# EAGLE library part HEADER_POS20_? (library con-molex-c-grid-sl)
Molex -C-Grid® / SL Series connector Wire-to-Board 2.54 mm (0.100") pitch header, 20 positions.
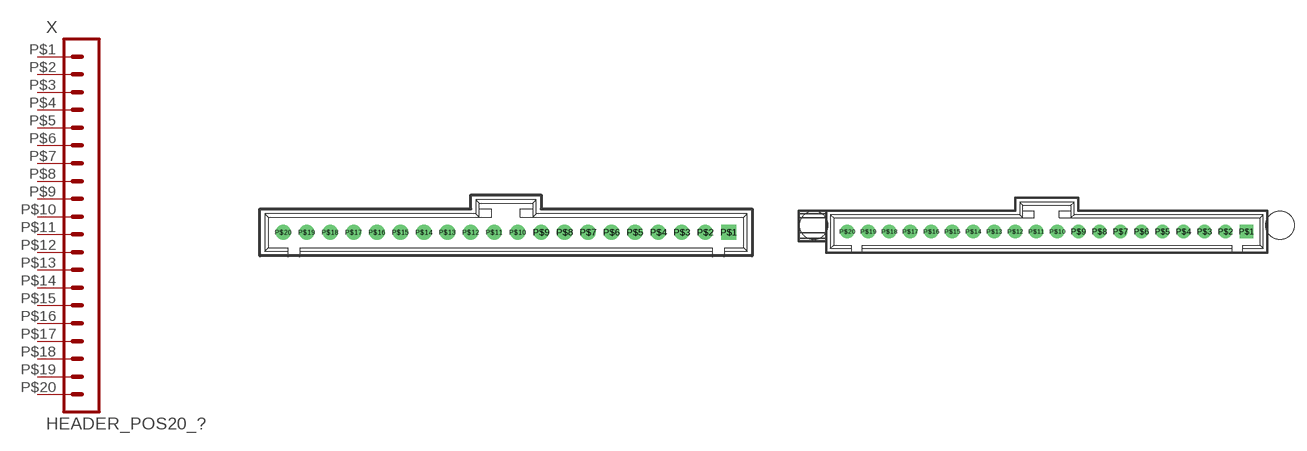
[diagram p14: symbol with the pads of 70543-POS20; footprints 70543-POS20, 70545-POS20]

Designator prefix X

## HEADER_POS20_70543  [70543-POS20]
P$1  1  pas
P$2  2  pas
P$3  3  pas
P$4  4  pas
P$5  5  pas
P$6  6  pas
P$7  7  pas
P$8  8  pas
P$9  9  pas
P$10  10  pas
P$11  11  pas
P$12  12  pas
P$13  13  pas
P$14  14  pas
P$15  15  pas
P$16  16  pas
P$17  17  pas
P$18  18  pas
P$19  19  pas
P$20  20  pas

## HEADER_POS20_70545  [70545-POS20]
Pads as for 70543-POS20

## HEADER_POS20_70555  [70555-POS20]
Pads as for 70543-POS20

## HEADER_POS20_70634  [70634-POS20]
Pads as for 70543-POS20

## HEADER_POS20_74099  [74099-POS20]
Pads as for 70543-POS20

## HEADER_POS20_70553  [70553-POS20]
Pads as for 70543-POS20

## Footprint 70543-POS20 (pad centres in mm)
Molex C-Grid/SL - 70543 - Header, Shrouded, Thru Hole, Latch Holder http://www.molex.com/pdm_docs/sd/705430001_sd.pdf
drill 1.1 square: P$1 24.13,0
drill 1.1 round: P$2 21.59,0; P$3 19.05,0; P$4 16.51,0; P$5 13.97,0; P$6 11.43,0; P$7 8.89,0; P$8 6.35,0; P$9 3.81,0; P$10 1.27,0; P$11 -1.27,0; P$12 -3.81,0; P$13 -6.35,0; P$14 -8.89,0; P$15 -11.43,0; P$16 -13.97,0; P$17 -16.51,0; P$18 -19.05,0; P$19 -21.59,0; P$20 -24.13,0

## Footprint 70545-POS20 (pad centres in mm)
Molex C-Grid/SL - 70545 - Header, Shrouded, Thru Hole, Latch Holder, Board Guide http://www.molex.com/pdm_docs/sd/705450003_sd.pdf
drill 1.1 square: P$1 24.13,0
drill 1.1 round: P$2 21.59,0; P$3 19.05,0; P$4 16.51,0; P$5 13.97,0; P$6 11.43,0; P$7 8.89,0; P$8 6.35,0; P$9 3.81,0; P$10 1.27,0; P$11 -1.27,0; P$12 -3.81,0; P$13 -6.35,0; P$14 -8.89,0; P$15 -11.43,0; P$16 -13.97,0; P$17 -16.51,0; P$18 -19.05,0; P$19 -21.59,0; P$20 -24.13,0
hole 3.404 at -28.194,0.762
hole 3.404 at 28.194,0.762

## Footprint 70555-POS20 (pad centres in mm)
Molex C-Grid/SL - 70555 - Header, Shrouded, Thru Hole, Right Angle, Latch Holder, Board Guide. http://www.molex.com/pdm_docs/sd/705550001_sd.pdf
drill 1.1 square: P$1 -24.13,0
drill 1.1 round: P$2 -21.59,0; P$3 -19.05,0; P$4 -16.51,0; P$5 -13.97,0; P$6 -11.43,0; P$7 -8.89,0; P$8 -6.35,0; P$9 -3.81,0; P$10 -1.27,0; P$11 1.27,0; P$12 3.81,0; P$13 6.35,0; P$14 8.89,0; P$15 11.43,0; P$16 13.97,0; P$17 16.51,0; P$18 19.05,0; P$19 21.59,0; P$20 24.13,0
hole 3.404 at -25.527,8.636
hole 3.404 at 25.527,8.636

## Footprint 70634-POS20 (pad centres in mm)
Molex C-Grid/SL - 70634 - Header, Shrouded, Surface Mount, Right Angle, Latch Holder http://www.molex.com/pdm_docs/sd/015912045_sd.pdf
smd 1.651 x 5.334: P$1 -24.13,0; P$2 -21.59,0; P$3 -19.05,0; P$4 -16.51,0; P$5 -13.97,0; P$6 -11.43,0; P$7 -8.89,0; P$8 -6.35,0; P$9 -3.81,0; P$10 -1.27,0; P$11 1.27,0; P$12 3.81,0; P$13 6.35,0; P$14 8.89,0; P$15 11.43,0; P$16 13.97,0; P$17 16.51,0; P$18 19.05,0; P$19 21.59,0; P$20 24.13,0
hole 3.404 at -25.527,10.693
hole 3.404 at 25.527,10.693

## Footprint 74099-POS20 (pad centres in mm)
Molex C-Grid/SL - 74099 - Header, Shrouded, Surface Mount, Latch Holder http://www.molex.com/pdm_docs/sd/740991004_sd.pdf
smd 1.27 x 3.175: P$1 24.13,2.095; P$2 21.59,-2.095; P$3 19.05,2.095; P$4 16.51,-2.095; P$5 13.97,2.095; P$6 11.43,-2.095; P$7 8.89,2.095; P$8 6.35,-2.095; P$9 3.81,2.095; P$10 1.27,-2.095; P$11 -1.27,2.095; P$12 -3.81,-2.095; P$13 -6.35,2.095; P$14 -8.89,-2.095; P$15 -11.43,2.095; P$16 -13.97,-2.095; P$17 -16.51,2.095; P$18 -19.05,-2.095; P$19 -21.59,2.095; P$20 -24.13,-2.095

## Footprint 70553-POS20 (pad centres in mm)
Molex C-Grid/SL - 70553 - Header, Shrouded, Thru Hole, Right Angle, Latch Holder http://www.molex.com/pdm_docs/sd/705530106_sd.pdf
drill 1.1 square: P$1 -24.13,0
drill 1.1 round: P$2 -21.59,0; P$3 -19.05,0; P$4 -16.51,0; P$5 -13.97,0; P$6 -11.43,0; P$7 -8.89,0; P$8 -6.35,0; P$9 -3.81,0; P$10 -1.27,0; P$11 1.27,0; P$12 3.81,0; P$13 6.35,0; P$14 8.89,0; P$15 11.43,0; P$16 13.97,0; P$17 16.51,0; P$18 19.05,0; P$19 21.59,0; P$20 24.13,0